# Altium integrated library EA_DOGS164W-A.IntLib: 1 symbol
Pins are listed as number, name and electrical type; pins without a type are passive.

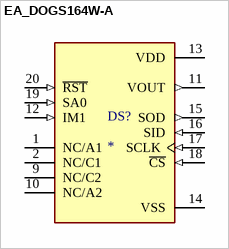
[diagram p0: symbol EA_DOGS164W-A]

## EA_DOGS164W-A
designator DS?
Character LCD Display Module Transflective 5 x 32 Dots FSTN - Film Super-Twisted Nematic Without Backlight IÂ²C, SPI 40.00mm x 33.00mm x 2.60mm; MF: Display Visions; MP: EA DOGS164W-A; Value: *; Check_prices: https://www.snapeda.com/parts/EA%20DOGS164W-A/Focus+Display+Solutions/view-part/?ref=eda; Price: None; SnapEDA_Link: https://www.snapeda.com/parts/EA%20DOGS164W-A/Focus+Display+Solutions/view-part/?ref=snap; Purchase-URL: https://pricing.snapeda.com/search/part/EA DOGS164W-A/?ref=eda; Package: None; Availability: In Stock
footprint LCD_EA_DOGS164W-A
pins: 1 NC/A1, 2 NC/C1, 9 NC/C2, 10 NC/A2, 11 VOUT (out), 12 IM1 (in), 13 VDD (power), 14 VSS (power), 15 SOD (out), 16 SID (in), 17 SCLK (in), 18 ~{CS} (in), 19 SA0 (in), 20 ~{RST} (in)